# Altium schematic symbol library Предохранители.SchLib: 5 symbols
Pins are listed as number, name and electrical type; pins without a type are passive.

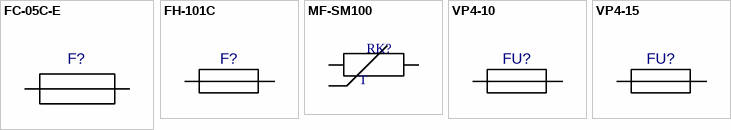
[diagram p0: symbols FC-05C-E to VP4-15]

## FC-05C-E
designator F?  (value not drawn)
Value: *
footprint FC-05C-E
pins: 1 A, 2 hidden, 3 hidden, 4 B

## FH-101C
designator F?  (value not drawn)
Value: *
footprint FH-101C
pins: 1, 2

## MF-SM100
designator RK?  (value not drawn)
Самовосстанавливающийся предохранитель
footprint MF-SM100 (Самовосстанавливающийся предохранитель)
pins: 1, 2
text: T

## VP4-10
designator FU?  (value not drawn)
Value: *
footprint VP4-10
pins: 1, 2

## VP4-15
designator FU?  (value not drawn)
Value: *
footprint VP4-10
pins: 1, 2